# EAGLE library part TL062 (library ZOMGTHEREMINBBQLOL)
TL062 Dual Op Amp
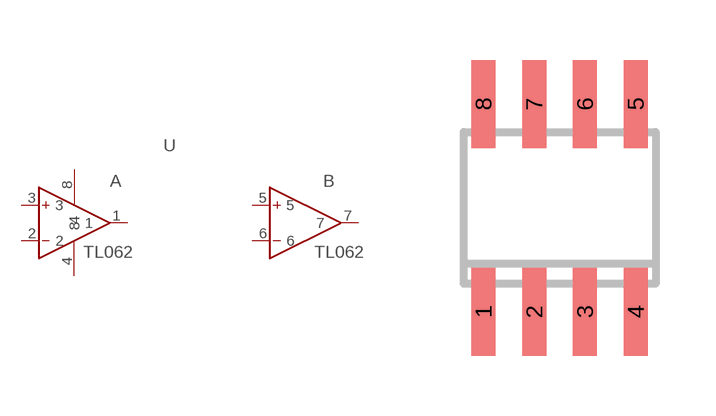
[diagram p4: symbol with the pads of SO8; footprint SO8]

Designator prefix -

## TL062  [SO8]
1  1  out
2  2  in
3  3  in
4  4  pwr
5  5  in
6  6  in
7  7  out
8  8  pwr

## Footprint SO8 (pad centres in mm)
smd 0.6 x 2.2: 1 -1.905,-2.6; 2 -0.635,-2.6; 3 0.635,-2.6; 4 1.905,-2.6; 5 1.905,2.6; 6 0.635,2.6; 7 -0.635,2.6; 8 -1.905,2.6